# Altium schematic symbol library Schlib1.SchLib: 25 symbols
Pins are listed as number, name and electrical type; pins without a type are passive.

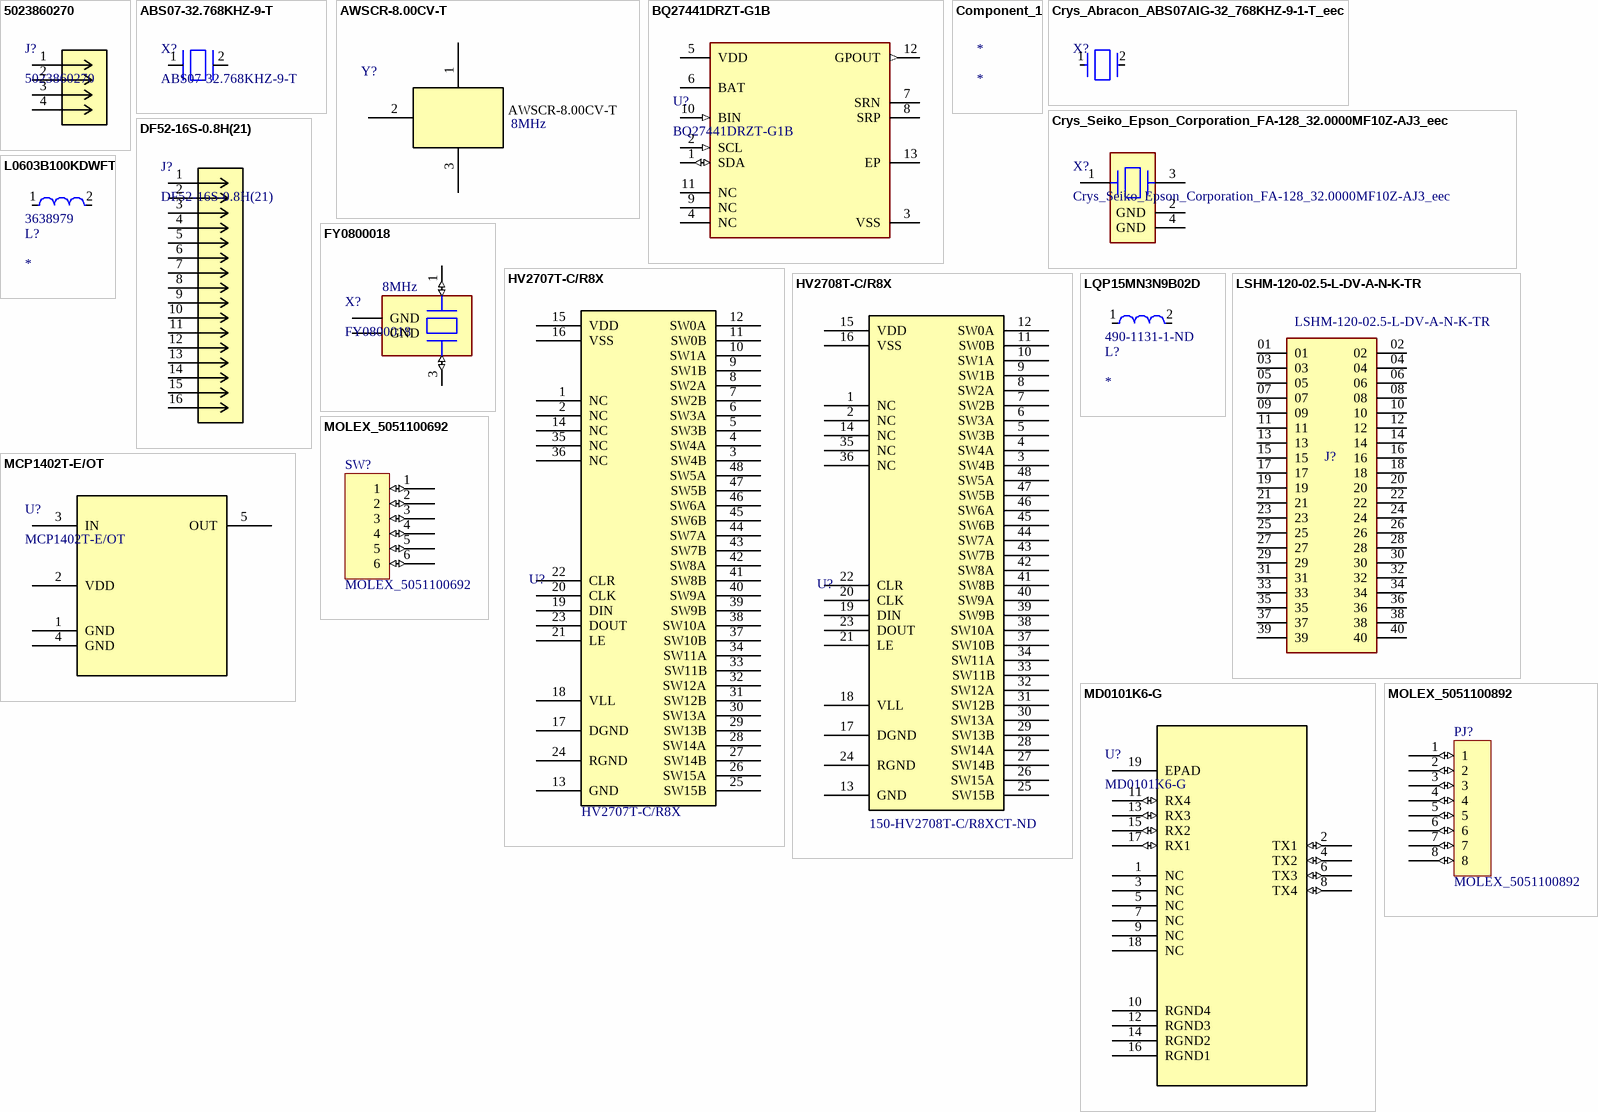
[diagram p0: symbols 5023860270 to MOLEX_5051100892]

## 5023860270
designator J?
No Description Available; Mfr_Name: Molex Connector Corporation; Copyright: Copyright (C) 2021 Ultra Librarian. All rights reserved.; Manufacturer_Part_Number: 5023860270; RefDes: RefDes; Type: DEV
footprint CON_5023860270_MOL
pins: 1, 2, 3, 4

## ABS07-32.768KHZ-9-T
designator X?
Crystal; Miniature; 3.2 x 1.5 x 0.9mm; 32.768KHZ; 9pf; 20ppm -40+85C; SMD; T/R; Manufacturer: Abracon; ESR (Equivalent Series Resistance): 70kR; Insulation Resistance: 500MR; Supplier 1: Digi-Key; Manufacturer Part Number: ABS07-32.768KHZ-9-T; RoHS: Yes; Category: Crystals; Stock 1: 83876; Pricing 1: 1=1.36000, 10=1.30000, 50=1.27000, 100=1.08860, 500=1.05840, 1000=0.89208 (USD); Mount: Surface Mount; Case/Package: CSMD; Number of Pins: 2; Min Operating Temperature: -40°C; Max Operating Temperature: 85°C; Frequency: 32.768kHz; Load Capacitance: 9pF; Packaging: Tape and Reel; Frequency Tolerance: 20ppm; Package Quantity: 3000; Tolerance: 20ppm; Frequency Stability: 20ppm; Termination: SMD/SMT; Series Resistance: 70kR; Series: ABS07; Operating Frequency: 32.768 kHz; Length: 3.2mm; Width: 1.5mm; Height: 0.035inch; Depth: 1.5mm; Radiation Hardening: No; RoHS Compliant: Yes; REACH SVHC: No SVHC; Lead Free: Lead Free; ComponentLink1URL: https://datasheet.ciiva.com/855/abs07-855948.pdf?src-supplier=Digi-Key; ComponentLink1Description: https://datasheet.ciiva.com/855/abs07-855948.pdf?src-supplier=Digi-Key; Supplier Part Number 1: 535-9544-1-ND
footprint XTAL320X150X90
pins: 1, 2

## AWSCR-8.00CV-T
designator Y?  Frequency: 8MHz  (hidden comment: AWSCR-8.00CV-T)
No Description Available; Mfr_Name: Abracon; Copyright: Copyright (C) 2021 Ultra Librarian. All rights reserved.; RefDes: RefDes; Type: DEV; Manufacturer_Part_Number: AWSCR-8.00CV-T
footprint AWSCR-8.00CV-T_ABR
pins: 1, 2, 3

## BQ27441DRZT-G1B
designator U?
System-side Impedance Track™ battery fuel (gas) gauge 12-SON -40 to 85; Manufacturer: Texas Instruments; Number of Cells: 1; Interface: I2C; Min Supply Voltage: 2.45V; Max Supply Voltage: 4.5V; Output Voltage: 1.8V; Operating Supply Current: 93uA; Capacity: 8000mAh; Output Current: 500uA; Supplier 1: Mouser; Manufacturer Part Number: BQ27441DRZT-G1B; RoHS: Yes; Category: Battery Management; Stock 1: 456; Pricing 1: 1=3.05000, 10=2.74000, 50=2.59000, 100=2.25000, 1000=2.12000, 10000=2.12000 (USD); Mount: Surface Mount; Number of Pins: 12; Contact Plating: Gold; Min Operating Temperature: -40°C; Max Operating Temperature: 85°C; Package Quantity: 250; Packaging: Tape and Reel; REACH SVHC: No SVHC; Lead Free: Lead Free; RoHS Compliant: Yes; ComponentLink1URL: https://datasheet.ciiva.com/46405/1795843-46405045.pdf?src-supplier=Element14; ComponentLink1Description: https://datasheet.ciiva.com/46405/1795843-46405045.pdf?src-supplier=Element14; Supplier Part Number 1: 595-BQ27441DRZT-G1B
footprint DRZ0012A_MFG
pins: 1 SDA (io), 2 SCL (in), 3 VSS (power), 4 NC, 5 VDD (power), 6 BAT, 7 SRN, 8 SRP, 9 NC, 10 BIN (in), 11 NC, 12 GPOUT (out), 13 EP

## Component_1
designator *

## Crys_Abracon_ABS07AIG-32_768KHZ-9-1-T_eec
designator X?  (value not drawn)
Crystal
footprint Crys_Abracon_ABS07AIG-32_768KHZ-9-1-T_eec_MFG
pins: 1, 2

## Crys_Seiko_Epson_Corporation_FA-128_32.0000MF10Z-AJ3_eec
designator X?
Crystal
footprint Crys_Seiko_Epson_Corporation_FA-128_32.0000MF10Z-AJ3_eec_0
pins: 1, 2 GND, 3, 4 GND

## DF52-16S-0.8H(21)
designator J?
No Description Available; Mfr_Name: Hirose; Copyright: Copyright (C) 2022 Ultra Librarian. All rights reserved.; Manufacturer_Part_Number: DF52-16S-0.8H(21); RefDes: RefDes; Type: DEV
footprint CONN_DF52-16S-0.8H(21)_HIR
pins: 1, 2, 3, 4, 5, 6, 7, 8, 9, 10, 11, 12, 13, 14, 15, 16

## FY0800018
designator X?  Frequency: 8MHz
Crystal 8MHz ±30ppm (Tol) ±30ppm (Stability) 18pF FUND 100Ohm 4-Pin SMD T/R; Manufacturer: Diodes; ESR (Equivalent Series Resistance): 100R; Supplier 1: Digi-Key; Manufacturer Part Number: FY0800018; RoHS: Yes; Category: Crystals; Stock 1: 10869; Pricing 1: 1=0.80000, 10=0.70800, 50=0.66220, 100=0.58520, 500=0.55440 (USD); Mount: Surface Mount; Case/Package: SMD/SMT; Min Operating Temperature: -40°C; Max Operating Temperature: 85°C; Packaging: Cut Tape; Frequency Stability: 30ppm; Frequency Tolerance: 30ppm; Load Capacitance: 18pF; Length: 0.197inch; Width: 0.126inch; Height: 0.043inch; ComponentLink1URL: http://media.digikey.com/pdf/Data%20Sheets/Pericom%20PDFs/FY0800018_VerB.pdf?src-supplier=Digi-Key; ComponentLink1Description: http://media.digikey.com/pdf/Data%20Sheets/Pericom%20PDFs/FY0800018_VerB.pdf?src-supplier=Digi-Key; Supplier Part Number 1: FY0800018CT-ND
footprint XTAL_ECS-80-18-30B-AGN-TR
pins: 1 IN/OUT (io), 2 GND (power), 3 OUT/IN (io), 4 GND (power)

## HV2707T-C/R8X
designator U?
16-CH 200V No Hv Bias Switch (SPST), 2 Bleed Resistor 48 LQFP 7X7X1.4MM T/r Rohs Compliant: Yes; Manufacturer: Microchip; Supplier 1: Digi-Key; RoHS: Yes; Category: Decoders and Multiplexers; Stock 1: 440; Pricing 1: 1=19.01000, 25=15.84720, 100=14.65500 (USD); Manufacturer Part Number: HV2707T-C/R8X
footprint LQFP48_7X7MC_MCH
pins: 1 NC, 2 NC, 3 SW4B, 4 SW4A, 5 SW3B, 6 SW3A, 7 SW2B, 8 SW2A, 9 SW1B, 10 SW1A, 11 SW0B, 12 SW0A, 13 GND, 14 NC, 15 VDD, 16 VSS, 17 DGND, 18 VLL, 19 DIN, 20 CLK, 21 LE, 22 CLR, 23 DOUT, 24 RGND, 25 SW15B, 26 SW15A, 27 SW14B, 28 SW14A, 29 SW13B, 30 SW13A, 31 SW12B, 32 SW12A, 33 SW11B, 34 SW11A, 35 NC, 36 NC, 37 SW10B, 38 SW10A, 39 SW9B, 40 SW9A, 41 SW8B, 42 SW8A, 43 SW7B, 44 SW7A, 45 SW6B, 46 SW6A, 47 SW5B, 48 SW5A

## HV2708T-C/R8X
designator U?  Supplier Part Number 1: 150-HV2708T-C/R8XCT-ND  (hidden comment: HV2708T-C/R8X)
16-CH 200V No Hv Bias Switch (SPST), 1 Bleed Resistor 48 LQFP 7X7X1.4MM T/r Rohs Compliant: Yes; Manufacturer: Microchip; Supplier 1: Digi-Key; Manufacturer Part Number: HV2708T-C/R8X; RoHS: Yes; Category: Decoders and Multiplexers; Stock 1: 440; Pricing 1: 1=19.01000, 25=15.84720, 100=14.65500 (USD)
footprint LQFP48_7X7MC_MCH
pins: 1 NC, 2 NC, 3 SW4B, 4 SW4A, 5 SW3B, 6 SW3A, 7 SW2B, 8 SW2A, 9 SW1B, 10 SW1A, 11 SW0B, 12 SW0A, 13 GND, 14 NC, 15 VDD, 16 VSS, 17 DGND, 18 VLL, 19 DIN, 20 CLK, 21 LE, 22 CLR, 23 DOUT, 24 RGND, 25 SW15B, 26 SW15A, 27 SW14B, 28 SW14A, 29 SW13B, 30 SW13A, 31 SW12B, 32 SW12A, 33 SW11B, 34 SW11A, 35 NC, 36 NC, 37 SW10B, 38 SW10A, 39 SW9B, 40 SW9A, 41 SW8B, 42 SW8A, 43 SW7B, 44 SW7A, 45 SW6B, 46 SW6A, 47 SW5B, 48 SW5A

## L0603B100KDWFT
designator L?  Supplier Part Number 1: 3638979
Inductor RF Chip Wirewound 10uH 10% 2.52MHz 0.38A 0.36Ohm DCR 0603 T/R; Manufacturer: KEMET; Manufacturer Part Number: L0603B100KDWFT; Self Resonant Frequency: 32MHz; Shielding: Shielded; Max DC Current: 115mA; DC Resistance (DCR): 360mR; DC Current: 380mA; Supplier 1: Farnell; RoHS: Yes; Category: Fixed Inductors; Stock 1: 1725; Pricing 1: 5=0.45200, 50=0.25500, 250=0.24300, 500=0.20900, 1500=0.18400, 3000=0.15700, 15000=0.13700 (CHF); Case/Package: 0603; Min Operating Temperature: -25°C; Max Operating Temperature: 105°C; Tolerance: 10%; Packaging: Tape and Reel; Package Quantity: 3000; Inductance: 10uH; Termination: SMD/SMT; Test Frequency: 2.52MHz; Resistor Type: Ceramic; Series: L-DWF; Length: 1.6mm; Width: 0.8mm; Height: 0.8mm; Depth: 1mm; Military Standard: Not; RoHS Compliant: Yes; ComponentLink1URL: http://www.mouser.com/ds/2/212/F3115-1104303.pdf?src-supplier=Mouser; ComponentLink1Description: http://www.mouser.com/ds/2/212/F3115-1104303.pdf?src-supplier=Mouser; ComponentLink2URL: http://components.arrow.com/part/dataview/0323_00380344?src-supplier=Arrow+Europe; ComponentLink2Description: http://components.arrow.com/part/dataview/0323_00380344?src-supplier=Arrow+Europe
footprint L0603B100KDWFT
pins: 1, 2

## LQP15MN3N9B02D
designator L?  Supplier Part Number 1: 490-1131-1-ND
Inductor RF Chip Thin Film 3.9nH 0.1nH 500MHz 13Q-Factor 170mA 500mOhm DCR 0402 Paper T/R; Manufacturer: Murata; Manufacturer Part Number: LQP15MN3N9B02D; Core Material: Non-Magnetic; DC Resistance (DCR): 500mR; Q Factor: 13; Self Resonant Frequency: 6GHz; Shielding: Unshielded; Supplier 1: Digi-Key; RoHS: Yes; Category: Fixed Inductors; Stock 1: 22125; Pricing 1: 1=0.18000, 10=0.15800, 25=0.14040, 50=0.11920, 100=0.10520, 250=0.09644, 500=0.08768, 1000=0.07365, 2500=0.06313 (USD); Mount: Surface Mount; Case/Package: 0402; Case Code (Metric): 1005; Case Code (Imperial): 0402; Min Operating Temperature: -40°C; Max Operating Temperature: 85°C; Inductance: 3.9nH; Max DC Current: 170mA; Packaging: Tape and Reel; Package Quantity: 10000; Current Rating: 170mA; Termination: SMD/SMT; Resistor Type: Thin Film; Test Frequency: 500MHz; DC Current: 170mA; Series: LQP15M; Rated Current-Max: 170mA; Technology: THIN FILM; Length: 1.1mm; Width: 0.5mm; Height: 0.35mm; Depth: 0.6mm; Height - Seated (Max): 0.018inch; Radiation Hardening: No; Military Standard: Not; Lead Free: Lead Free; RoHS Compliant: Yes; ComponentLink1URL: https://datasheet.ciiva.com/27054/1865137-27054329.pdf?src-supplier=Jameco; ComponentLink1Description: https://datasheet.ciiva.com/27054/1865137-27054329.pdf?src-supplier=Jameco; ComponentLink2URL: https://datasheet.ciiva.com/11799/0900766b80f155d9-11799807.pdf?src-supplier=RSComponents; ComponentLink2Description: https://datasheet.ciiva.com/11799/0900766b80f155d9-11799807.pdf?src-supplier=RSComponents; ComponentLink3URL: https://datasheet.ciiva.com/8510/l0075s0084lqp15m-8510329.pdf?src-supplier=Avnet; ComponentLink3Description: https://datasheet.ciiva.com/8510/l0075s0084lqp15m-8510329.pdf?src-supplier=Avnet; ComponentLink4URL: https://datasheet.ciiva.com/4976/product-4976732.pdf?src-supplier=Mouser; ComponentLink4Description: https://datasheet.ciiva.com/4976/product-4976732.pdf?src-supplier=Mouser; ComponentLink5URL: https://datasheet.ciiva.com/1039/l0075s0084lqp15m-1039837.pdf?src-supplier=Digi-Key; ComponentLink5Description: https://datasheet.ciiva.com/1039/l0075s0084lqp15m-1039837.pdf?src-supplier=Digi-Key; ComponentLink6URL: https://datasheet.ciiva.com/1039/l0075s0084lqp15m-1039838.pdf?src-supplier=Digi-Key; ComponentLink6Description: https://datasheet.ciiva.com/1039/l0075s0084lqp15m-1039838.pdf?src-supplier=Digi-Key; ComponentLink7URL: https://datasheet.ciiva.com/1039/l0075s0084lqp15m-1039839.pdf?src-supplier=Digi-Key; ComponentLink7Description: https://datasheet.ciiva.com/1039/l0075s0084lqp15m-1039839.pdf?src-supplier=Digi-Key; ComponentLink8URL: https://datasheet.ciiva.com/16362/l0075s0084lqp15m-16362181.pdf?src-supplier=Future+Electronics; ComponentLink8Description: https://datasheet.ciiva.com/16362/l0075s0084lqp15m-16362181.pdf?src-supplier=Future+Electronics; ComponentLink9URL: https://datasheet.ciiva.com/18230/getdatasheetpartid-153200-18230711.pdf?src-supplier=Verical; ComponentLink9Description: https://datasheet.ciiva.com/18230/getdatasheetpartid-153200-18230711.pdf?src-supplier=Verical; ComponentLink10URL: https://datasheet.ciiva.com/8510/l0075s0084lqp15m-8510975.pdf?src-supplier=Avnet; ComponentLink10Description: https://datasheet.ciiva.com/8510/l0075s0084lqp15m-8510975.pdf?src-supplier=Avnet
footprint INDC1005X45N
pins: 1, 2

## LSHM-120-02.5-L-DV-A-N-K-TR
designator J?
Conn Socket and Terminal Strip HDR/SKT 40 POS 0.5mm Solder ST SMD T/R; Manufacturer: Samtec; Number of Contacts: 40; Supplier 1: Digi-Key; RoHS: Yes; Category: Connectors; Stock 1: 3008; Pricing 1: 1=6.60000, 10=5.97000, 25=5.63960, 50=5.50200, 100=5.22690, 250=4.67672 (USD); Contact Plating: Gold; Contact Material: Bronze; Housing Color: Black; Housing Material: Polymer; Min Operating Temperature: -55°C; Max Operating Temperature: 125°C; Number of Rows: 2; Termination: Solder; Packaging: Tape and Reel; Orientation: Straight; Series: LSH; Length: 14.7mm; Pitch: 0.5mm; Depth: 4.98mm; Radiation Hardening: No; REACH SVHC: No SVHC; RoHS Compliant: Yes; ComponentLink1URL: http://www.farnell.com/datasheets/2372721.pdf?src-supplier=Farnell; ComponentLink1Description: http://www.farnell.com/datasheets/2372721.pdf?src-supplier=Farnell; ComponentLink2URL: http://www.farnell.com/datasheets/2000266.pdf?src-supplier=Farnell; ComponentLink2Description: http://www.farnell.com/datasheets/2000266.pdf?src-supplier=Farnell; ComponentLink3URL: http://components.arrow.com/part/dataview/0323_01943898?src-supplier=Arrow+Europe; ComponentLink3Description: http://components.arrow.com/part/dataview/0323_01943898?src-supplier=Arrow+Europe; ComponentLink4URL: http://components.arrow.com/part/dataview/48680868S8397842N1004?src-supplier=Arrow+Electronics; ComponentLink4Description: http://components.arrow.com/part/dataview/48680868S8397842N1004?src-supplier=Arrow+Electronics; ComponentLink5URL: http://www.farnell.com/datasheets/2000266.pdf?src-supplier=Element14; ComponentLink5Description: http://www.farnell.com/datasheets/2000266.pdf?src-supplier=Element14; ComponentLink6URL: http://suddendocs.samtec.com/prints/lshm-1xx-xx.x-xx-dv-a-x-x-tr-mkt.pdf?src-supplier=Digi-Key; ComponentLink6Description: http://suddendocs.samtec.com/prints/lshm-1xx-xx.x-xx-dv-a-x-x-tr-mkt.pdf?src-supplier=Digi-Key; ComponentLink7URL: ftp://ftp.samtec.com/webfiles/PDF/LSHM.PDF?src-supplier=Avnet; ComponentLink7Description: ftp://ftp.samtec.com/webfiles/PDF/LSHM.PDF?src-supplier=Avnet; ComponentLink8URL: ftp://ftp.samtec.com/webfiles/PDF/LSHM.PDF?src-supplier=Avnet+Europe; ComponentLink8Description: ftp://ftp.samtec.com/webfiles/PDF/LSHM.PDF?src-supplier=Avnet+Europe; ComponentLink9URL: http://www.farnell.com/datasheets/2372721.pdf?src-supplier=Newark; ComponentLink9Description: http://www.farnell.com/datasheets/2372721.pdf?src-supplier=Newark; Supplier Part Number 1: SAM13196CT-ND; Manufacturer Part Number: LSHM-120-02.5-L-DV-A-N-K-TR
footprint SAMTEC_LSHM-120-XX.X-X-DV-A-N-XX
pins: 01, 02, 03, 04, 05, 06, 07, 08, 09, 10, 11, 12, 13, 14, 15, 16, 17, 18, 19, 20, 21, 22, 23, 24, 25, 26, 27, 28, 29, 30, 31, 32, 33, 34, 35, 36, 37, 38, 39, 40

## MCP1402T-E/OT
designator U?
No Description Available; Mfr_Name: Microchip; Copyright: Copyright (C) 2021 Ultra Librarian. All rights reserved.; Manufacturer_Part_Number: MCP1402T-E/OT; RefDes: RefDes; Type: DEV
footprint SOT-23-5_MC_MCH
pins: 1 GND, 2 VDD, 3 IN, 4 GND, 5 OUT

## MD0101K6-G
designator U?
No Description Available; Mfr_Name: Microchip; Copyright: Copyright (C) 2022 Ultra Librarian. All rights reserved.; Manufacturer_Part_Number: MD0101K6-G; RefDes: RefDes; Type: DEV
footprint DFN18_5X5_MCH
pins: 1 NC, 2 TX1 (io), 3 NC, 4 TX2 (io), 5 NC, 6 TX3 (io), 7 NC, 8 TX4 (io), 9 NC, 10 RGND4, 11 RX4 (io), 12 RGND3, 13 RX3 (io), 14 RGND2, 15 RX2 (io), 16 RGND1, 17 RX1 (io), 18 NC, 19 EPAD

## MOLEX_5051100692
designator SW?
footprint MOLEX_5051100692
pins: 1 (io), 2 (io), 3 (io), 4 (io), 5 (io), 6 (io)

## MOLEX_5051100892
designator PJ?
footprint MOLEX_5051100892
pins: 1 (io), 2 (io), 3 (io), 4 (io), 5 (io), 6 (io), 7 (io), 8 (io)

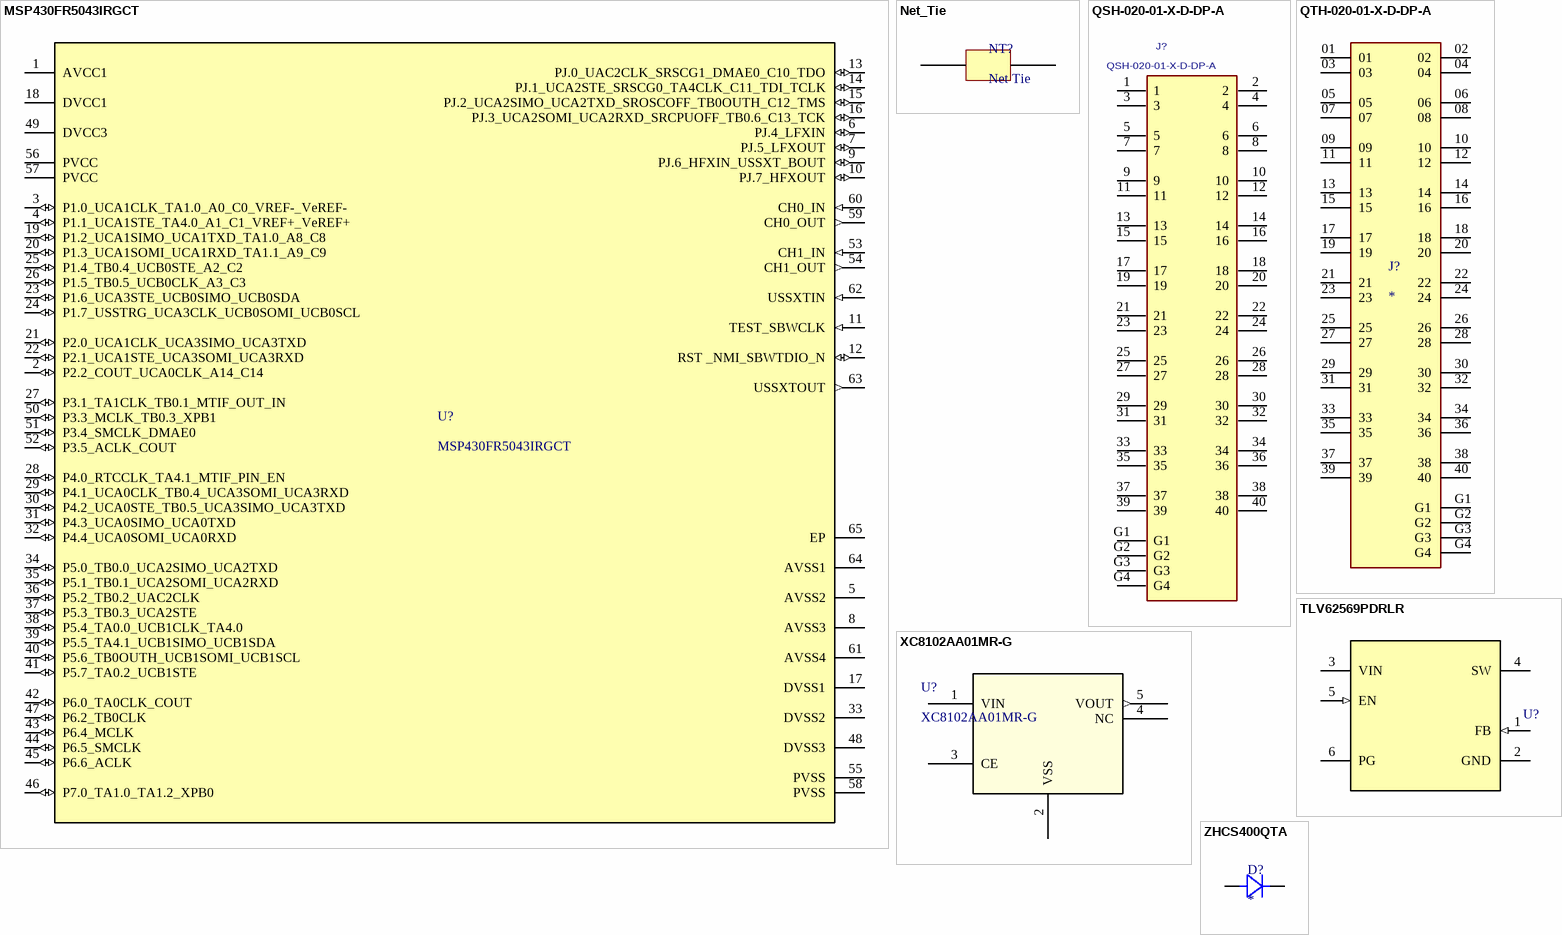
[diagram p1: symbols MSP430FR5043IRGCT to ZHCS400QTA]

## MSP430FR5043IRGCT
designator U?
No Description Available; Mfr_Name: Texas Instruments; Type: DEV; RefDes: RefDes; Copyright: Copyright (C) 2021 Ultra Librarian. All rights reserved.; Manufacturer_Part_Number: MSP430FR5043IRGCT
footprint RGC0064G
pins: 1 AVCC1 (power), 2 P2.2_COUT_UCA0CLK_A14_C14 (io), 3 P1.0_UCA1CLK_TA1.0_A0_C0_VREF-_VeREF- (io), 4 P1.1_UCA1STE_TA4.0_A1_C1_VREF+_VeREF+ (io), 5 AVSS2 (power), 6 PJ.4_LFXIN (io), 7 PJ.5_LFXOUT (io), 8 AVSS3 (power), 9 PJ.6_HFXIN_USSXT_BOUT (io), 10 PJ.7_HFXOUT (io), 11 TEST_SBWCLK (in), 12 RST _NMI_SBWTDIO_N (io), 13 PJ.0_UAC2CLK_SRSCG1_DMAE0_C10_TDO (io), 14 PJ.1_UCA2STE_SRSCG0_TA4CLK_C11_TDI_TCLK (io), 15 PJ.2_UCA2SIMO_UCA2TXD_SROSCOFF_TB0OUTH_C12_TMS (io), 16 PJ.3_UCA2SOMI_UCA2RXD_SRCPUOFF_TB0.6_C13_TCK (io), 17 DVSS1 (power), 18 DVCC1 (power), 19 P1.2_UCA1SIMO_UCA1TXD_TA1.0_A8_C8 (io), 20 P1.3_UCA1SOMI_UCA1RXD_TA1.1_A9_C9 (io), 21 P2.0_UCA1CLK_UCA3SIMO_UCA3TXD (io), 22 P2.1_UCA1STE_UCA3SOMI_UCA3RXD (io), 23 P1.6_UCA3STE_UCB0SIMO_UCB0SDA (io), 24 P1.7_USSTRG_UCA3CLK_UCB0SOMI_UCB0SCL (io), 25 P1.4_TB0.4_UCB0STE_A2_C2 (io), 26 P1.5_TB0.5_UCB0CLK_A3_C3 (io), 27 P3.1_TA1CLK_TB0.1_MTIF_OUT_IN (io), 28 P4.0_RTCCLK_TA4.1_MTIF_PIN_EN (io), 29 P4.1_UCA0CLK_TB0.4_UCA3SOMI_UCA3RXD (io), 30 P4.2_UCA0STE_TB0.5_UCA3SIMO_UCA3TXD (io), 31 P4.3_UCA0SIMO_UCA0TXD (io), 32 P4.4_UCA0SOMI_UCA0RXD (io), 33 DVSS2 (power), 34 P5.0_TB0.0_UCA2SIMO_UCA2TXD (io), 35 P5.1_TB0.1_UCA2SOMI_UCA2RXD (io), 36 P5.2_TB0.2_UAC2CLK (io), 37 P5.3_TB0.3_UCA2STE (io), 38 P5.4_TA0.0_UCB1CLK_TA4.0 (io), 39 P5.5_TA4.1_UCB1SIMO_UCB1SDA (io), 40 P5.6_TB0OUTH_UCB1SOMI_UCB1SCL (io), 41 P5.7_TA0.2_UCB1STE (io), 42 P6.0_TA0CLK_COUT (io), 43 P6.4_MCLK (io), 44 P6.5_SMCLK (io), 45 P6.6_ACLK (io), 46 P7.0_TA1.0_TA1.2_XPB0 (io), 47 P6.2_TB0CLK (io), 48 DVSS3 (power), 49 DVCC3 (power), 50 P3.3_MCLK_TB0.3_XPB1 (io), 51 P3.4_SMCLK_DMAE0 (io), 52 P3.5_ACLK_COUT (io), 53 CH1_IN (in), 54 CH1_OUT (out), 55 PVSS (power), 56 PVCC (power), 57 PVCC (power), 58 PVSS (power), 59 CH0_OUT (out), 60 CH0_IN (in), 61 AVSS4 (power), 62 USSXTIN (in), 63 USSXTOUT (out), 64 AVSS1 (power), 65 EP

## Net_Tie
designator NT?, comment Net Tie  (net tie, no BOM)
footprint Net_Tie_Top_Bottom
pins: 1, 2

## QSH-020-01-X-D-DP-A
designator J?
HIGH SPEED SOCKET, 0.5mm PITCH, DIFFERENTIAL PAIRS, 40 PINS.; MANUFACTURER: SAMTEC, INC; CREATED: October 8, 2015 - Wendy Xin; PCB DECAL: QSH-020-01-X-D-DP-A
footprint QSH-020-01-X-D-DP-A
pins: 1, 2, 3, 4, 5, 6, 7, 8, 9, 10, 11, 12, 13, 14, 15, 16, 17, 18, 19, 20, 21, 22, 23, 24, 25, 26, 27, 28, 29, 30, 31, 32, 33, 34, 35, 36, 37, 38, 39, 40, G1, G2, G3, G4

## QTH-020-01-X-D-DP-A
designator J?
MF: Samtec; MP: QTH-020-01-X-D-DP-A; Price: None; Package: None; Availability: Unavailable; Value: *
footprint SAMTEC_QTH-020-01-X-D-DP-A
pins: 01, 02, 03, 04, 05, 06, 07, 08, 09, 10, 11, 12, 13, 14, 15, 16, 17, 18, 19, 20, 21, 22, 23, 24, 25, 26, 27, 28, 29, 30, 31, 32, 33, 34, 35, 36, 37, 38, 39, 40, G1 (power), G2 (power), G3 (power), G4 (power)

## TLV62569PDRLR
designator U?  (value not drawn)
2.5V-5.5V input, 2-A high efficiency step-down buck converter in SOT23 and SOT563 package 6-SOT-5X3 -40 to 125; Manufacturer: Texas Instruments; Supplier 1: Digi-Key; Manufacturer Part Number: TLV62569PDRLR; RoHS: Yes; Category: Voltage Regulators - Switching; Pricing 1: 1=0.60000, 10=0.52500, 25=0.49280, 100=0.40230, 250=0.37364, 500=0.31800, 1000=0.26250 (USD); Min Operating Temperature: -40°C; Max Operating Temperature: 125°C; RoHS Compliant: Yes; ComponentLink1URL: http://www.ti.com/general/docs/suppproductinfo.tsp?distId=10&amp;gotoUrl=http%3A%2F%2Fwww.ti.com%2Flit%2Fgpn%2Ftlv62569&src-supplier=Digi-Key; ComponentLink1Description: http://www.ti.com/general/docs/suppproductinfo.tsp?distId=10&amp;gotoUrl=http%3A%2F%2Fwww.ti.com%2Flit%2Fgpn%2Ftlv62569&src-supplier=Digi-Key; ComponentLink2URL: http://www.ti.com/lit/ds/symlink/tlv62569.pdf?src-supplier=Digi-Key; ComponentLink2Description: http://www.ti.com/lit/ds/symlink/tlv62569.pdf?src-supplier=Digi-Key; Supplier Part Number 1: 296-50408-1-ND
footprint TLV62569PDRLR
pins: 1 FB (in), 2 GND (power), 3 VIN (power), 4 SW (power), 5 EN (in), 6 PG (oc)

## XC8102AA01MR-G
designator U?
No Description Available; Mfr_Name: Torex Semiconductor; Copyright: Copyright (C) 2021 Ultra Librarian. All rights reserved.; Manufacturer_Part_Number: XC8102AA01MR-G; RefDes: RefDes; Type: DEV
footprint XC8102_SOT-25_TOR
pins: 1 VIN (power), 2 VSS, 3 CE, 4 NC, 5 VOUT (out)

## ZHCS400QTA
designator D?
Diode Schottky 40V 1A Automotive 2-Pin SOD-323 T/R; Manufacturer: Diodes; Manufacturer Part Number: ZHCS400QTA; Supplier 1: Farnell; RoHS: Yes; Category: Rectifier Diodes; Stock 1: 385; Pricing 1: 5=0.87300, 10=0.73400, 100=0.49400, 500=0.38800 (CHF); Mount: Surface Mount; Packaging: Tape and Reel; Average Rectified Current: 1A; Max Reverse Voltage (DC): 40V; RoHS Compliant: Yes; ComponentLink1URL: http://www.mouser.com/ds/2/115/ZHCS400Q-959646.pdf?src-supplier=Mouser; ComponentLink1Description: http://www.mouser.com/ds/2/115/ZHCS400Q-959646.pdf?src-supplier=Mouser; Supplier Part Number 1: 3127490
footprint DIODE_SOD323_DIO
pins: 1, 2